# Altium schematic symbol library IceZumAlhambra.SchLib: 1 symbol
Pins are listed as number, name and electrical type; pins without a type are passive.

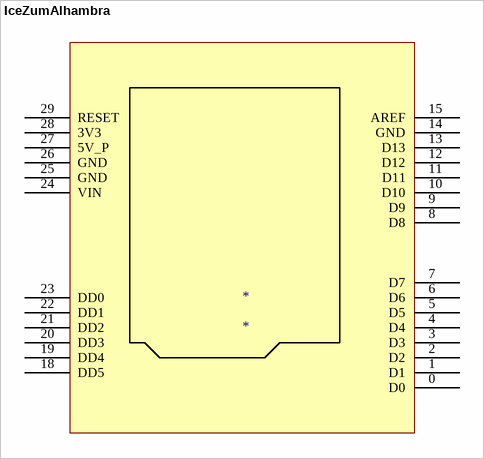
[diagram p0: symbol IceZumAlhambra]

## IceZumAlhambra
designator *
footprint IceZumAlhambra
pins: 0 D0, 1 D1, 2 D2, 3 D3, 4 D4, 5 D5, 6 D6, 7 D7, 8 D8, 9 D9, 10 D10, 11 D11, 12 D12, 13 D13, 14 GND, 15 AREF, 18 DD5, 19 DD4, 20 DD3, 21 DD2, 22 DD1, 23 DD0, 24 VIN, 25 GND, 26 GND, 27 5V_P, 28 3V3, 29 RESET